# EAGLE library part HEADER_01X30 (library MF_Connectors)
Library: MF_Connectors Description: Header Connector with 30 Positions and 01 Rows. Use the LABEL Attribute to label the pin on the schematic and PCB. You can remove the attributes on the PCB by using the SMASH function on the part and then deleting the text.
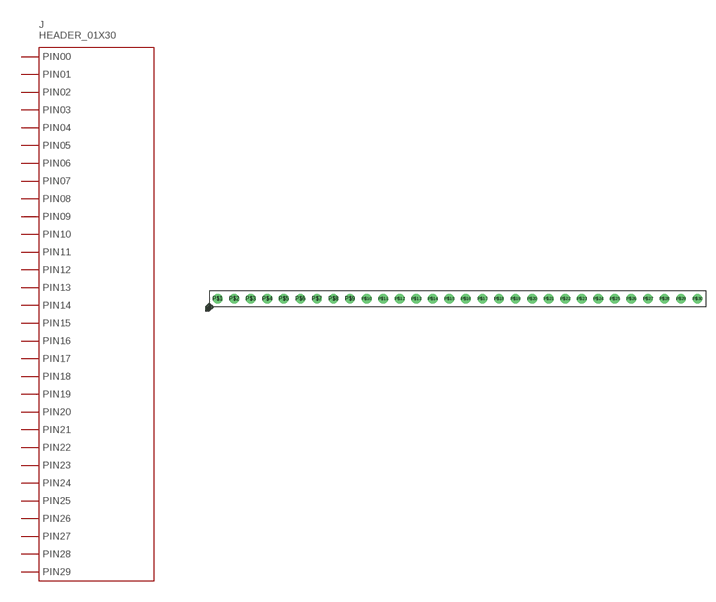
[diagram p26: symbol with the pads of PTH_2.54MM_01X30; footprint PTH_2.54MM_01X30]

Designator prefix J

## HEADER_01X30_PTH_2.54MM  [PTH_2.54MM_01X30]
P$1  PIN0
P$2  PIN1
P$3  PIN2
P$4  PIN3
P$5  PIN4
P$6  PIN5
P$7  PIN6
P$8  PIN7
P$9  PIN8
P$10  PIN9
P$11  PIN10
P$12  PIN11
P$13  PIN12
P$14  PIN13
P$15  PIN14
P$16  PIN15
P$17  PIN16
P$18  PIN17
P$19  PIN18
P$20  PIN19
P$21  PIN20
P$22  PIN21
P$23  PIN22
P$24  PIN23
P$25  PIN24
P$26  PIN25
P$27  PIN26
P$28  PIN27
P$29  PIN28
P$30  PIN29

## Footprint PTH_2.54MM_01X30 (pad centres in mm)
Description: Package for 2.54MM Pitch Header 30 Position. Based on 4UCON 00834.
drill 1: P$1 -36.83,0; P$2 -34.29,0; P$3 -31.75,0; P$4 -29.21,0; P$5 -26.67,0; P$6 -24.13,0; P$7 -21.59,0; P$8 -19.05,0; P$9 -16.51,0; P$10 -13.97,0; P$11 -11.43,0; P$12 -8.89,0; P$13 -6.35,0; P$14 -3.81,0; P$15 -1.27,0; P$16 1.27,0; P$17 3.81,0; P$18 6.35,0; P$19 8.89,0; P$20 11.43,0; P$21 13.97,0; P$22 16.51,0; P$23 19.05,0; P$24 21.59,0; P$25 24.13,0; P$26 26.67,0; P$27 29.21,0; P$28 31.75,0; P$29 34.29,0; P$30 36.83,0